# Altium footprint library TE Connectivity 1-188275-0.PcbLib: 2 footprints
Each footprint in its own frame and in the unit in brackets; x right, y up, seen from the top. Pads: shape width x height; smd on the part's side, far side on the other; paste and mask are expansions set on the pad; w line width, h text height; cw(c..) or ccw(c..) is an arc to the next point about the centre after c.
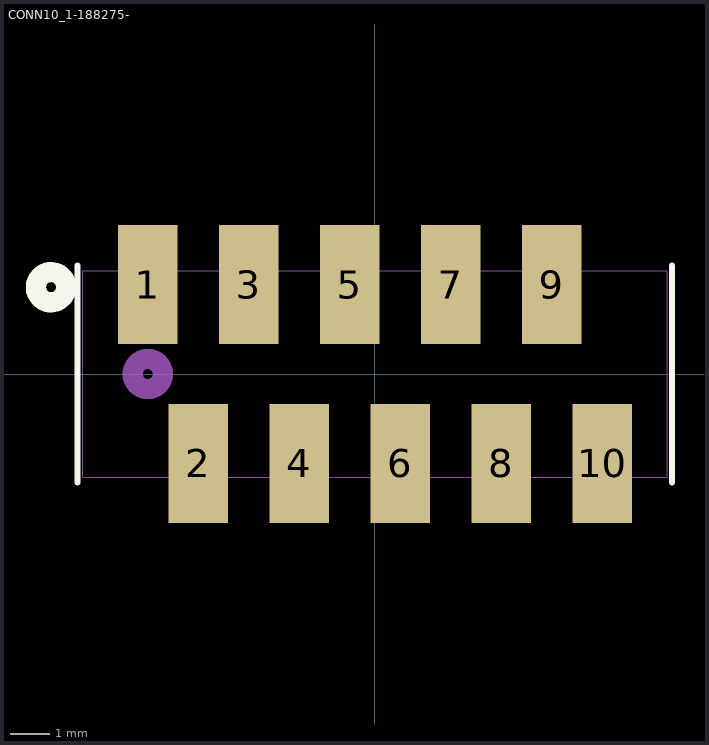
[diagram p0: the footprints below, top view; thin cyan lines are the x and y axes]

## CONN10_1-188275- [mil]
pads (10):
  rect 59x118 smd: 1(-225,88.58) 2(-175,-88.58) 3(-125,88.58) 4(-75,-88.58) 5(-25,88.58) 6(25,-88.58) 7(75,88.58) 8(125,-88.58) 9(175,88.58) 10(225,-88.58)
Top Overlay:
  circle w20: c-321,86 r15
  lines w6: -294.5,-107.5 -294.5,107.5 ; 294.5,-107.5 294.5,107.5
Bottom Overlay:
  circle w20: c-321,86 r15
Mechanical 1:
  circle w20: c-225,0 r15
  lines w1: -289.5,-102.5 -289.5,102.5 289.5,102.5 289.5,-102.5 -289.5,-102.5

## PCBComponent_1 [mil]